# Altium schematic symbol library SCH - CRYSTALS - MURATA XRCGB.SchLib: 1 symbol
Pins are listed as number, name and electrical type; pins without a type are passive.

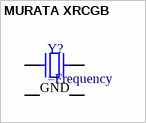
[diagram p0: symbol MURATA XRCGB]

## MURATA XRCGB
designator Y?
pins: 1, 2 GND, 3, 4 GND